# Altium schematic symbol library SCH - OPAMP - TSV994.SCHLIB: 1 symbol
Pins are listed as number, name and electrical type; pins without a type are passive.

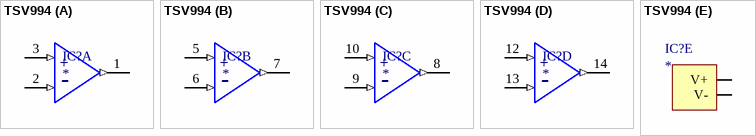
[diagram p0: symbol TSV994]

## TSV994
designator IC?
Integrated Circuit
part A pins: 1 OUT1 (out), 2 IN1- (in), 3 IN1+ (in)
part B pins: 5 IN2+ (in), 6 IN2- (in), 7 OUT2 (out)
part C pins: 8 OUT3 (out), 9 IN3- (in), 10 IN3+ (in)
part D pins: 12 IN4+ (in), 13 IN4- (in), 14 OUT4 (out)
part E pins: 4 V+ (power), 11 V- (power)
part A text: +; -
part B text: +; -
part C text: +; -
part D text: +; -